# EAGLE library part MAX4525 (library UPenn)
DPDT analog switch
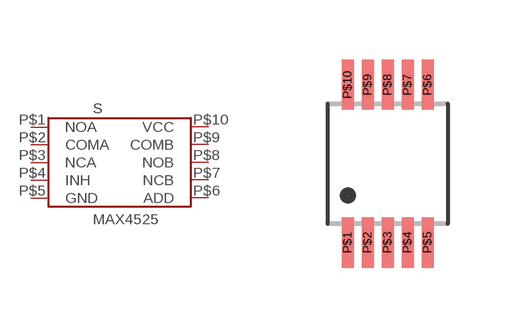
[diagram p8: symbol with the pads of 3MM_10PIN; footprint 3MM_10PIN]

Designator prefix S

## MAX4525  [3MM_10PIN]
P$1  NOA
P$2  COMA
P$3  NCA
P$4  INH
P$5  GND
P$6  ADD
P$7  NCB
P$8  NOB
P$9  COMB
P$10  VCC

## Footprint 3MM_10PIN (pad centres in mm)
smd 0.3 x 1.25: P$1 -1,-1.975; P$2 -0.5,-1.975; P$3 0,-1.975; P$4 0.5,-1.975; P$5 1,-1.975; P$6 1,1.975; P$7 0.5,1.975; P$8 0,1.975; P$9 -0.5,1.975; P$10 -1,1.975